# EAGLE library part SP3312T (library littelfuse)
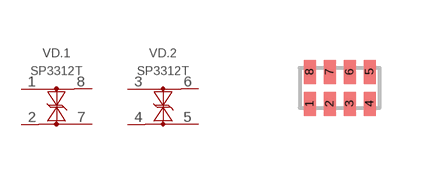
[diagram p0: symbol with the pads of UDFN-08; footprint UDFN-08]

Designator prefix VD; gates .1=SP3312T .2=SP3312T

## SP3312TUT  [UDFN-08]
1  .1:IO1  pas
2  .1:IO2  pas
3  .2:IO1  pas
4  .2:IO2  pas
5  .2:IO2  pas
6  .2:IO1  pas
7  .1:IO2  pas
8  .1:IO1  pas

## Footprint UDFN-08 (pad centres in mm)
smd 0.3 x 0.6: 1 -0.75,-0.4; 2 -0.25,-0.4; 3 0.25,-0.4; 4 0.75,-0.4; 5 0.75,0.4; 6 0.25,0.4; 7 -0.25,0.4; 8 -0.75,0.4